# Altium schematic symbol library 0402WGF1002TCE.SchLib: 1 symbol
Pins are listed as number, name and electrical type; pins without a type are passive.

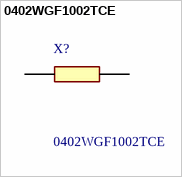
[diagram p0: symbol 0402WGF1002TCE]

## 0402WGF1002TCE
designator X?
Chip Resistor - Surface Mount 10KOhms +/-1% 1/16W 0402 RoHS; Manufacturer_Name: UNI-ROYAL(Uniroyal Elec); Geometry.Height: 0.4mm; Manufacturer_Part_Number: 0402WGF1002TCE; Mouser Part Number: *; Mouser Price/Stock: *; Arrow Part Number: *; Arrow Price/Stock: *; Datasheet Link: https://datasheet.lcsc.com/szlcsc/Uniroyal-Elec-0402WGF1002TCE_C25744.pdf
footprint RESC1005X40N
pins: 1, 2